# Altium schematic symbol library MAX30102.SchLib: 1 symbol
Pins are listed as number, name and electrical type; pins without a type are passive.

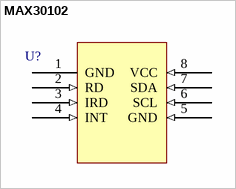
[diagram p0: symbol MAX30102]

## MAX30102
designator U?
footprint PCBComponent_1
pins: 1 GND (power), 2 RD (in), 3 IRD (in), 4 INT (in), 5 GND (in), 6 SCL (in), 7 SDA (in), 8 VCC (in)